# EAGLE library part FH34SRJ-8S-0.5SH_50_ (library FH34SRJ-8S-0.5SH_50_)
FFC & FPC Connectors 8P SMT HORIZ ZIF AU 1MM HGHT .5MM PITCH Source: Datasheet <https://datasheet.lcsc.com/szlcsc/Hirose-HRS-FH34SRJ-8S-0-5SH-50_C88372.pdf>
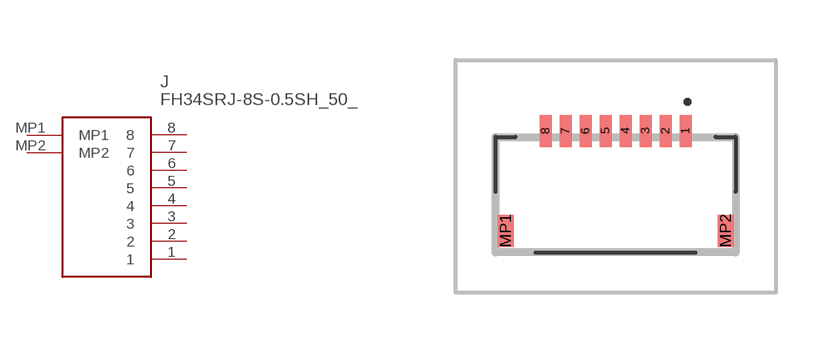
[diagram p0: symbol with the pads of FH34SRJ8S05SH50; footprint FH34SRJ8S05SH50]

Designator prefix J

## FH34SRJ-8S-0.5SH_50_ (Description: FFC & FPC Connectors 8P SMT HORIZ ZIF AU 1MM HGHT .5MM PITCH; Height: 1.1mm; Manufacturer_Name: Hirose; Manufacturer_Part_Number: FH34SRJ-8S-0.5SH(50); Mouser_Part_Number: 798-FH34SRJ8S05SH50; Mouser_Price-Stock: https://www.mouser.co.uk/ProductDetail/Hirose-Connector/FH34SRJ-8S-0.5SH50?qs=vnk2wBG9e16kawieRwL2EA%3D%3D)  [FH34SRJ8S05SH50]
1  1
2  2
3  3
4  4
5  5
6  6
7  7
8  8
MP1  MP1
MP2  MP2

## Footprint FH34SRJ8S05SH50 (pad centres in mm)
FH34SRJ-8S-0.5SH(50)-3
smd 0.3 x 0.8: 1 1.75,1.525; 2 1.25,1.525; 3 0.75,1.525; 4 0.25,1.525; 5 -0.25,1.525; 6 -0.75,1.525; 7 -1.25,1.525; 8 -1.75,1.525
smd 0.4 x 0.8: MP1 -2.75,-0.975; MP2 2.75,-0.975